# Altium footprint library 常用小元件封装库.PcbLib: 50 footprints (part 3 of 4)
Each footprint in its own frame and in the unit in brackets; x right, y up, seen from the top. Pads: shape width x height; smd on the part's side, far side on the other; paste and mask are expansions set on the pad; w line width, h text height; cw(c..) or ccw(c..) is an arc to the next point about the centre after c.
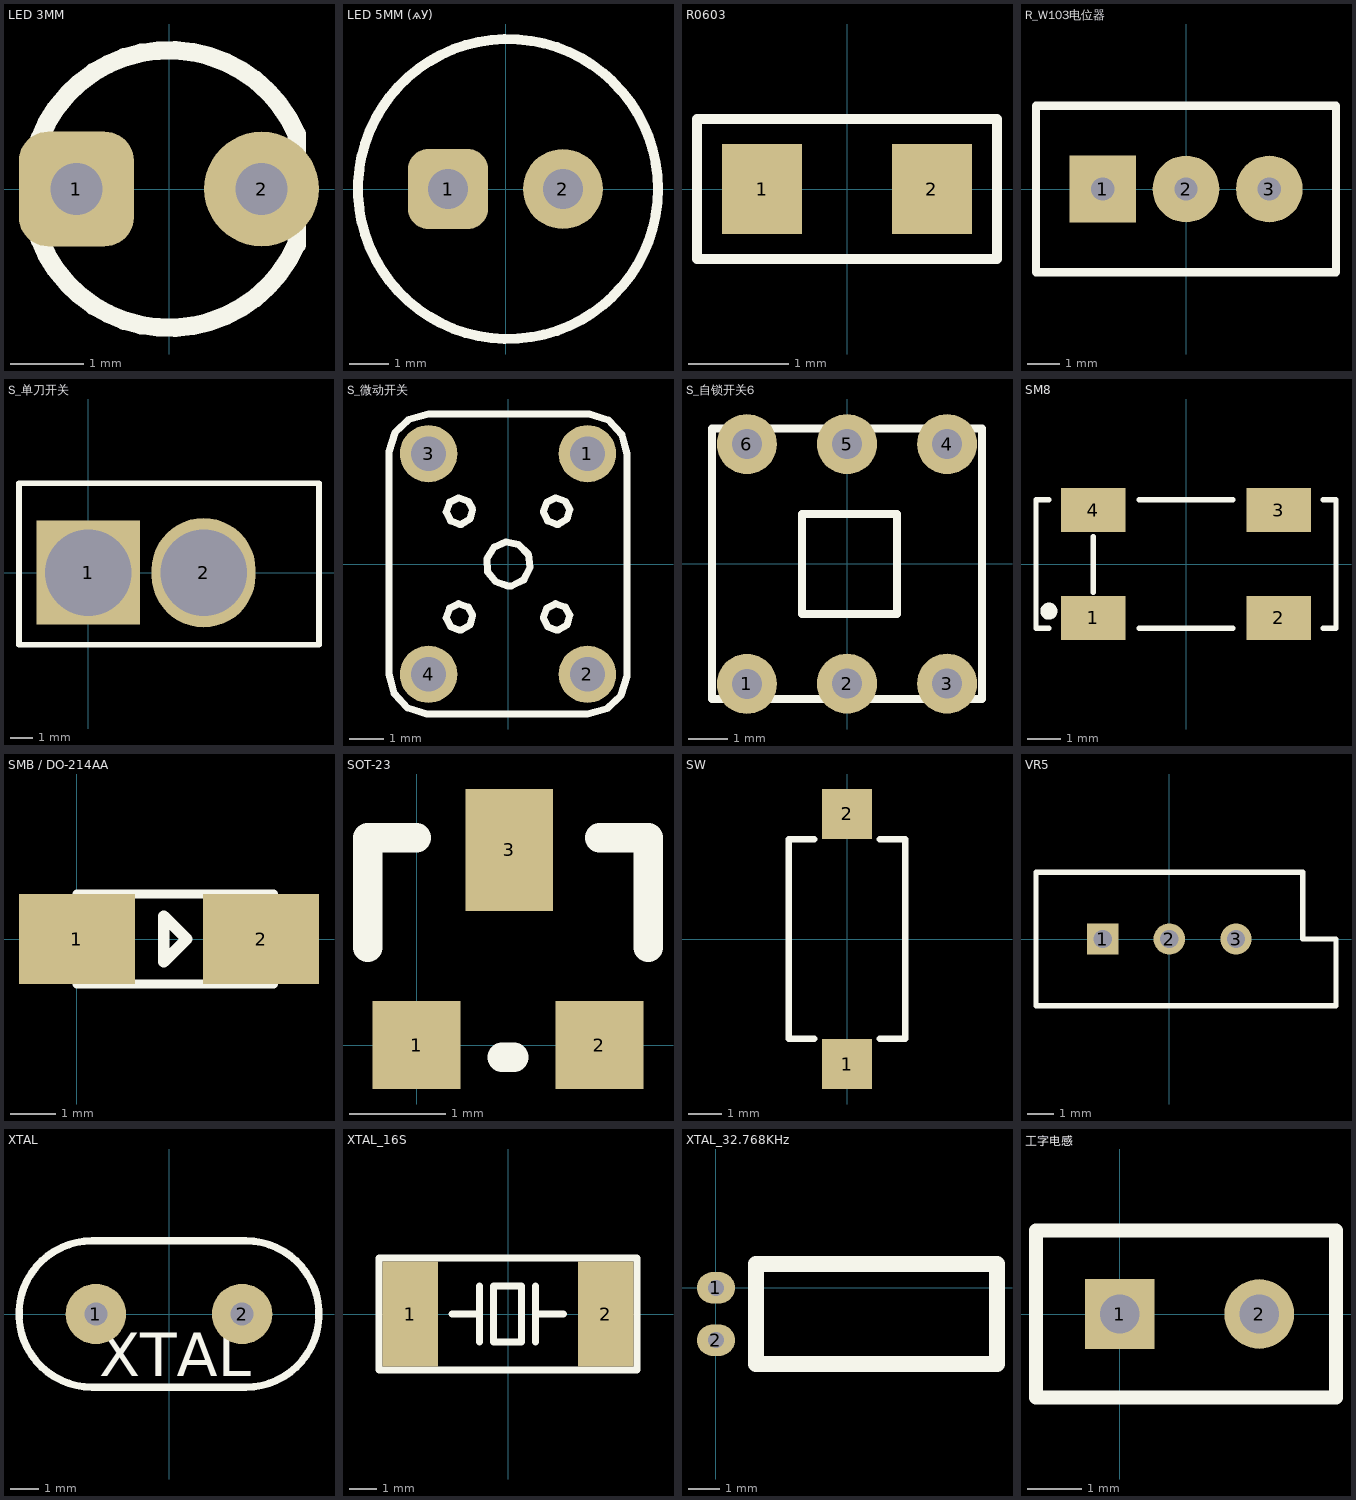
[diagram p2: the footprints below, top view; thin cyan lines are the x and y axes]

## LED 3MM [mil]
pads (2):
  rrect50% 62x62 hole 28: 1(-50,0)
  round 62 hole 28: 2(50,0)
Top Overlay:
  lines w10: 68.94,-29.54 cw(c0,0) 68.94,29.54 ; 69,-30 69,29

## LED 5MM (ѧУ) [mil]
pads (2):
  rrect50% 80x80 hole 40: 1(-57.5,0)
  round 80 hole 40: 2(57.5,0)
Top Overlay:
  circle w10: c2.5,0 r150.08

## R0603 [mm]
pads (2):
  rect 0.8x0.9 smd: 1(-0.85,0) 2(0.85,0)
Top Overlay:
  lines w0.1: -1.5,-0.7 -1.5,0.7 1.5,0.7 1.5,-0.7 -1.5,-0.7

## R_W103电位器 [mil]
pads (3):
  rect 80x80 hole 28 square: 1(-100,0)
  round 80 hole 28: 2(0,0) 3(100,0)
Top Overlay:
  lines w10: -180,-100 180,-100 180,100 -100,100 -180,100 -180,-100

## S_单刀开关 [mil]
pads (2):
  rect 180x180 hole 150: 1(0,0)
  oval 180x190 hole 150: 2(200,0)
Top Overlay:
  lines w10: -120,-125 400,-125 400,155 -100,155 -120,155 -120,-125

## S_微动开关 [mil]
pads (4):
  round 65 hole 39.37: 1(90,125) 2(90,-125) 3(-90,125) 4(-90,-125)
Top Overlay:
  lines w8: -135,-125 -135,125 -135,127 -128,149 -112,164 -90,170 90,170 92,170 114,163 129,147 135,125 135,-125 135,-127 128,-149 112,-164 90,-170 -90,-170 -92,-170 -114,-163 -129,-147 -135,-125 ; -70,-61 -66,-50 -56,-45 -45,-49 -40,-58 -43,-69 -53,-75 -55,-75 -65,-71 -70,-61 ; -70,59 -66,70 -56,75 -45,71 -40,62 -43,51 -53,45 -55,45 -65,49 -70,59 ; -24,6 -16,19 -2,25 12,22 23,11 25,-4 18,-18 4,-25 0,-25 -14,-20 -23,-9 -24,6 ; 40,-61 44,-50 54,-45 65,-49 70,-58 67,-69 57,-75 55,-75 45,-71 40,-61 ; 40,59 44,70 54,75 65,71 70,62 67,51 57,45 55,45 45,49 40,59

## S_自锁开关6 [mil]
pads (6):
  round 60 hole 30: 1(-100,-120) 2(0,-119.69) 3(100,-119.69) 4(100,119.69) 5(0,119.69) 6(-100,119.69)
Top Overlay:
  lines w8: -135,-135 -135,135 135,135 135,-135 -135,-135 ; -45,-50 -45,50 50,50 50,-50 -45,-50

## SM8 [mm]
pads (4):
  rect 1.9x1.3 smd: 1(-2.75,-1.6) 2(2.75,-1.6) 3(2.75,1.6) 4(-2.75,1.6)
Top Overlay:
  circle w0.254: c-4.064,-1.397 r0.127
  lines w0.152: -4.064,-1.905 -4.445,-1.905 -4.445,1.905 -4.064,1.905 ; -2.75,-0.838 -2.75,0.813 ; -1.397,-1.905 1.397,-1.905 ; -1.397,1.905 1.397,1.905 ; 4.064,-1.905 4.445,-1.905 4.445,-1.651 4.445,1.651 4.445,1.905 4.064,1.905

## SMB / DO-214AA [mm] "肖特基二极管（自制，手焊可用）"
pads (2):
  rect 2.57x2 smd: 1(0,0) 2(4.09,0)
Top Overlay:
  lines w0.2: 0,-1 4.37,-1 4.37,1 0,1 0,0 0,-1
  lines w0.254: 1.931,-0.508 1.931,0.508 2.439,0 1.931,-0.508

## SOT-23 [mil]
pads (3):
  rect 36x36 smd: 1(-0.02,0.02) 2(74.98,0.02)
  rect 36x50 smd: 3(37.98,80.02)
Top Overlay:
  lines w12: -20.02,40.02 -20.02,85.02 -0.02,85.02 ; 34.98,-4.98 39.98,-4.98 ; 74.98,85.02 94.98,85.02 94.98,40.02

## SW [mil]
pads (2):
  rect 59x59 smd: 1(0,-148) 2(0,148)
Top Overlay:
  lines w8: -39,-118 -69,-118 -69,118 -39,118 ; 39,-118 69,-118 69,118 39,118

## VR5 [mm]
pads (3):
  rect 1.2x1.2 hole 0.7: 1(-2.54,0)
  round 1.2 hole 0.7: 2(0,0) 3(2.54,0)
Top Overlay:
  lines w0.2: -5.08,-2.54 -5.08,2.54 5.08,2.54 5.08,0 6.35,0 6.35,-2.54 -5.08,-2.54

## XTAL [mm]
pads (2):
  round 2.1 hole 0.8: 1(-2.54,0) 2(2.54,0)
Top Overlay:
  lines w0.254: -2.667,-2.54 cw(c-2.667,0) -2.667,2.54 2.667,2.54 cw(c2.667,0) 2.667,-2.54 -2.667,-2.54
  text "XTAL" at -2.413,-2.159 h1.52

## XTAL_16S [mil]
pads (2):
  rect 80x150 smd: 1(-140,0) 2(140,0)
Top Overlay:
  lines w10: -80.55,-0.05 -40.55,-0.05 ; -40.55,-40.05 -40.55,39.95 ; 39.45,-40.05 39.45,39.95 ; 39.45,-0.05 79.45,-0.05 ; -185,-80 -185,80 185,80 185,-80 -185,-80 ; -20.55,-40.05 -20.55,39.95 19.45,39.95 19.45,-40.05 -20.55,-40.05

## XTAL_32.768KHz [mm] "32.768KHz晶振"
pads (2):
  oval 1.2x1 hole 0.5: 1(0,0) 2(0,-1.651)
Top Overlay:
  lines w0.508: 1.27,-2.413 8.89,-2.413 8.89,0.762 1.27,0.762 1.27,-2.413

## 工字电感 [mil]
pads (2):
  rect 50x50 hole 28 square: 1(0,0)
  round 50 hole 28: 2(100,0)
Top Overlay:
  lines w10: -60,-60 -60,60 155,60 155,-60 -60,-60